# Altium schematic symbol library NL17SZ06DFT2G.SchLib: 1 symbol
Pins are listed as number, name and electrical type; pins without a type are passive.

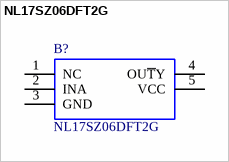
[diagram p0: symbol NL17SZ06DFT2G]

## NL17SZ06DFT2G
designator B?
Manufacturer_Name: ON Semiconductor; Allied_Number: 70467355; Geometry.Height: 1.1mm; Supplier_Name: RS; RS Part Number: 8021575; Manufacturer_Part_Number: NL17SZ06DFT2G; Other Part Number: *; Description: *; Datasheet Link: http://www.onsemi.com/pub/Collateral/NL17SZ06-D.PDF; 3D Package: *
footprint SOT65P210X110-5N
pins: 1 NC, 2 INA, 3 GND, 4 OU~{T}Y, 5 VCC (power)